# Altium integrated library ON Semi General Purpose Transistors.IntLib: 1679 symbols (part 16 of 36)
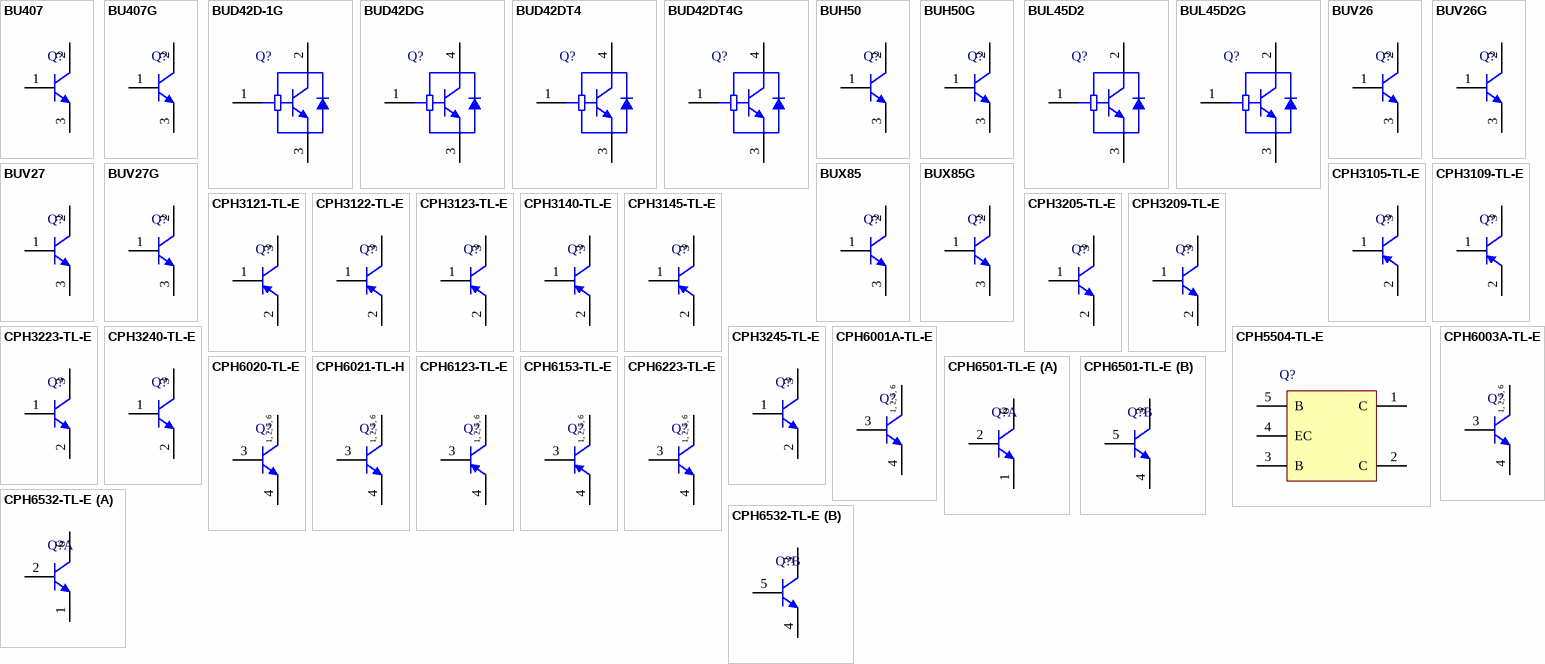
[diagram p60: symbols BU407 to CPH6532-TL-E]

## CPH6532-TL-E
designator Q?
Bipolar Transistor, 50 V, 1 A, Low VCE(sat), NPN Dual, 6-Pin CPH, Pb-Free, Tape and Reel; Manufacturer: On Semiconductor; PartNumber: CPH6532-TL-E; IC Continuous (A): 1; Polarity: Dual NPN; PackageReference: CPH-6; PackageDescription: 6-Pin Small Outline Transistor, Body 2.9 x 1.6 mm, Pitch 0.95 mm; Supplier 1: Digi-Key; Supplier Part Number 1: CPH6532-TL-E-ND; Supplier 2: Mouser; Supplier Part Number 2: 863-CPH6532-TL-E; Packing: Tape and Reel; RoHS: TRUE; Mounting Technology: Surface Mount; ComponentLink1Description: Manufacturer URL; ComponentLink1URL: http://www.onsemi.com/; ComponentLink2Description: Datasheet; ComponentLink2URL: http://www.onsemi.com/pub_link/Collateral/CPH6532-D.PDF; ComponentLink3Description: Package Specification; ComponentLink3URL: http://www.onsemi.com/pub_link/Collateral/CPH6001A-D.PDF
footprint ONSC-CPH-6_V (SOT23, 6-Leads, Body 2.9x1.6mm, Pitch 0.95mm)
part A pins: 1 E, 2 B, 6 C
part B pins: 3 C, 4 E, 5 B

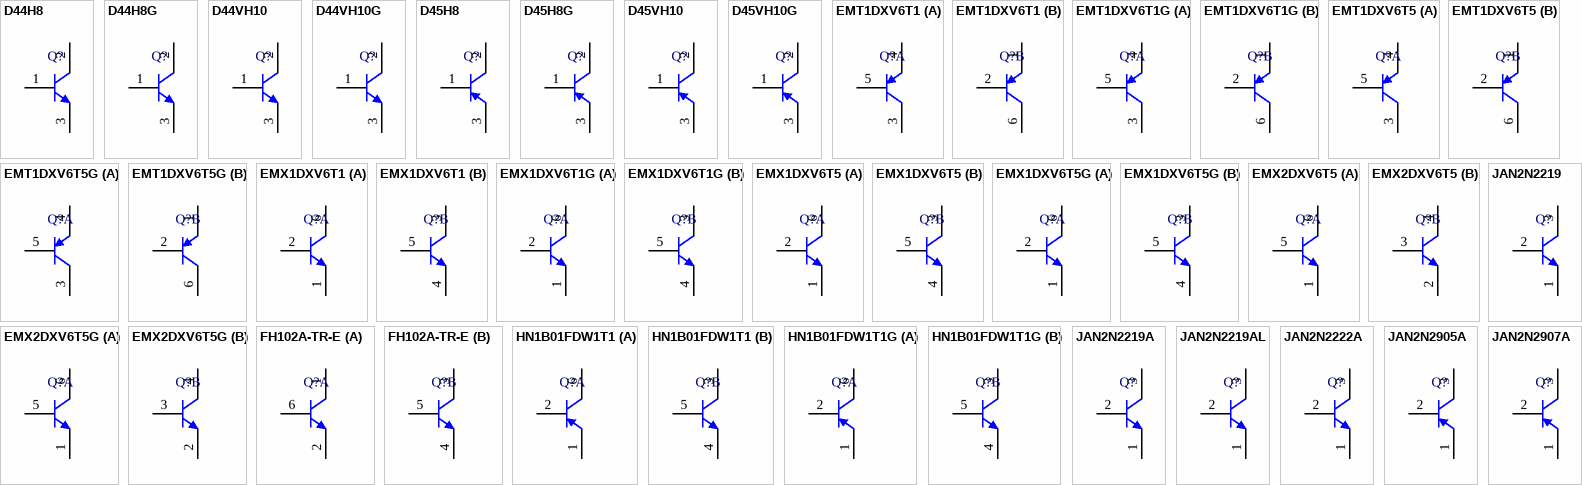
[diagram p19: symbols D44H8 to JAN2N2907A]

## D44H8
designator Q?
Complementary Silicon Power Transistor, 3-Pin TO-220, Tube; Manufacturer: On Semiconductor; PartNumber: D44H8; IC Continuous (A): 10; Polarity: NPN; DatasheetVersion: Rev. 12; PackageVersion: Rev. AG, 09/2011; PackageReference: TO-220-3-221A-09; PackageDescription: 3-Pin Flange Mount, Vertical Straight Lead, Body 9.97 x 4.445 mm, Pitch 2.54 mm; Supplier 1: Digi-Key; Supplier Part Number 1: D44H8OS-ND; Packing: Tube; RoHS: FALSE; Mounting Technology: Through Hole; ComponentLink1Description: Manufacturer URL; ComponentLink1URL: http://www.onsemi.com/; ComponentLink2Description: Datasheet; ComponentLink2URL: http://www.onsemi.com/pub_link/Collateral/D44H-D.PDF; ComponentLink3Description: Package Specification; ComponentLink3URL: http://www.onsemi.com/pub_link/Collateral/221A-09.PDF
footprint ONSC-TO-220-3-221A-09 (FM, 3-Leads, Body 10.3x4.85mm, Pitch 2.54mm)
pins: 1 B, 2 C, 3 E

## D44H8G
designator Q?
Complementary Silicon Power Transistor, 3-Pin TO-220, Pb-Free, Tube; Manufacturer: On Semiconductor; PartNumber: D44H8G; IC Continuous (A): 10; Polarity: NPN; DatasheetVersion: Rev. 12; PackageVersion: Rev. AG, 09/2011; PackageReference: TO-220-3-221A-09; PackageDescription: 3-Pin Flange Mount, Vertical Straight Lead, Body 9.97 x 4.445 mm, Pitch 2.54 mm; Supplier 1: Digi-Key; Supplier Part Number 1: D44H8GOS-ND; Supplier 2: Farnell; Supplier Part Number 2: 9556206; Supplier 3: Newark; Supplier Part Number 3: 38K1067; Supplier 4: Newark; Supplier Part Number 4: 71J3833; Supplier 5: Mouser; Supplier Part Number 5: 863-D44H8G; Packing: Tube; RoHS: TRUE; Mounting Technology: Through Hole; ComponentLink1Description: Manufacturer URL; ComponentLink1URL: http://www.onsemi.com/; ComponentLink2Description: Datasheet; ComponentLink2URL: http://www.onsemi.com/pub_link/Collateral/D44H-D.PDF; ComponentLink3Description: Package Specification; ComponentLink3URL: http://www.onsemi.com/pub_link/Collateral/221A-09.PDF
footprint ONSC-TO-220-3-221A-09 (FM, 3-Leads, Body 10.3x4.85mm, Pitch 2.54mm)
pins: 1 B, 2 C, 3 E

## D44VH10
designator Q?
Complementary Silicon Power Transistor, 3-Pin TO-220, Tube; Manufacturer: On Semiconductor; PartNumber: D44VH10; IC Continuous (A): 15; Polarity: NPN; DatasheetVersion: Rev. 7; PackageVersion: Rev. AG, 09/2011; PackageReference: TO-220-3-221A-09; PackageDescription: 3-Pin Flange Mount, Vertical Straight Lead, Body 9.97 x 4.445 mm, Pitch 2.54 mm; Supplier 1: Digi-Key; Supplier Part Number 1: D44VH10OS-ND; Packing: Tube; RoHS: FALSE; Mounting Technology: Through Hole; ComponentLink1Description: Manufacturer URL; ComponentLink1URL: http://www.onsemi.com/; ComponentLink2Description: Datasheet; ComponentLink2URL: http://www.onsemi.com/pub_link/Collateral/D44VH-D.PDF; ComponentLink3Description: Package Specification; ComponentLink3URL: http://www.onsemi.com/pub_link/Collateral/221A-09.PDF
footprint ONSC-TO-220-3-221A-09 (FM, 3-Leads, Body 10.3x4.85mm, Pitch 2.54mm)
pins: 1 B, 2 C, 3 E

## D44VH10G
designator Q?
Complementary Silicon Power Transistor, 3-Pin TO-220, Pb-Free, Tube; Manufacturer: On Semiconductor; PartNumber: D44VH10G; IC Continuous (A): 15; Polarity: NPN; DatasheetVersion: Rev. 7; PackageVersion: Rev. AG, 09/2011; PackageReference: TO-220-3-221A-09; PackageDescription: 3-Pin Flange Mount, Vertical Straight Lead, Body 9.97 x 4.445 mm, Pitch 2.54 mm; Supplier 1: Digi-Key; Supplier Part Number 1: D44VH10GOS-ND; Supplier 2: Farnell; Supplier Part Number 2: 1459054; Supplier 3: Newark; Supplier Part Number 3: 26K3586; Supplier 4: Mouser; Supplier Part Number 4: 863-D44VH10G; Packing: Tube; RoHS: TRUE; Mounting Technology: Through Hole; ComponentLink1Description: Manufacturer URL; ComponentLink1URL: http://www.onsemi.com/; ComponentLink2Description: Datasheet; ComponentLink2URL: http://www.onsemi.com/pub_link/Collateral/D44VH-D.PDF; ComponentLink3Description: Package Specification; ComponentLink3URL: http://www.onsemi.com/pub_link/Collateral/221A-09.PDF
footprint ONSC-TO-220-3-221A-09 (FM, 3-Leads, Body 10.3x4.85mm, Pitch 2.54mm)
pins: 1 B, 2 C, 3 E

## D45H8
designator Q?
Complementary Silicon Power Transistor, 3-Pin TO-220, Tube; Manufacturer: On Semiconductor; PartNumber: D45H8; IC Continuous (A): 10; Polarity: PNP; DatasheetVersion: Rev. 12; PackageVersion: Rev. AG, 09/2011; PackageReference: TO-220-3-221A-09; PackageDescription: 3-Pin Flange Mount, Vertical Straight Lead, Body 9.97 x 4.445 mm, Pitch 2.54 mm; Supplier 1: Digi-Key; Supplier Part Number 1: D45H8OS-ND; Packing: Tube; RoHS: FALSE; Mounting Technology: Through Hole; ComponentLink1Description: Manufacturer URL; ComponentLink1URL: http://www.onsemi.com/; ComponentLink2Description: Datasheet; ComponentLink2URL: http://www.onsemi.com/pub_link/Collateral/D44H-D.PDF; ComponentLink3Description: Package Specification; ComponentLink3URL: http://www.onsemi.com/pub_link/Collateral/221A-09.PDF
footprint ONSC-TO-220-3-221A-09 (FM, 3-Leads, Body 10.3x4.85mm, Pitch 2.54mm)
pins: 1 B, 2 C, 3 E

## D45H8G
designator Q?
Complementary Silicon Power Transistor, 3-Pin TO-220, Pb-Free, Tube; Manufacturer: On Semiconductor; PartNumber: D45H8G; IC Continuous (A): 10; Polarity: PNP; DatasheetVersion: Rev. 12; PackageVersion: Rev. AG, 09/2011; PackageReference: TO-220-3-221A-09; PackageDescription: 3-Pin Flange Mount, Vertical Straight Lead, Body 9.97 x 4.445 mm, Pitch 2.54 mm; Supplier 1: Digi-Key; Supplier Part Number 1: D45H8GOS-ND; Supplier 2: Farnell; Supplier Part Number 2: 9556214; Supplier 3: Newark; Supplier Part Number 3: 45J0695; Supplier 4: Mouser; Supplier Part Number 4: 863-D45H8G; Packing: Tube; RoHS: TRUE; Mounting Technology: Through Hole; ComponentLink1Description: Manufacturer URL; ComponentLink1URL: http://www.onsemi.com/; ComponentLink2Description: Datasheet; ComponentLink2URL: http://www.onsemi.com/pub_link/Collateral/D44H-D.PDF; ComponentLink3Description: Package Specification; ComponentLink3URL: http://www.onsemi.com/pub_link/Collateral/221A-09.PDF
footprint ONSC-TO-220-3-221A-09 (FM, 3-Leads, Body 10.3x4.85mm, Pitch 2.54mm)
pins: 1 B, 2 C, 3 E

## D45VH10
designator Q?
Complementary Silicon Power Transistor, 3-Pin TO-220, Tube; Manufacturer: On Semiconductor; PartNumber: D45VH10; IC Continuous (A): 15; Polarity: PNP; DatasheetVersion: Rev. 7; PackageVersion: Rev. AG, 09/2011; PackageReference: TO-220-3-221A-09; PackageDescription: 3-Pin Flange Mount, Vertical Straight Lead, Body 9.97 x 4.445 mm, Pitch 2.54 mm; Supplier 1: Digi-Key; Supplier Part Number 1: D45VH10OS-ND; Packing: Tube; RoHS: FALSE; Mounting Technology: Through Hole; ComponentLink1Description: Manufacturer URL; ComponentLink1URL: http://www.onsemi.com/; ComponentLink2Description: Datasheet; ComponentLink2URL: http://www.onsemi.com/pub_link/Collateral/D44VH-D.PDF; ComponentLink3Description: Package Specification; ComponentLink3URL: http://www.onsemi.com/pub_link/Collateral/221A-09.PDF
footprint ONSC-TO-220-3-221A-09 (FM, 3-Leads, Body 10.3x4.85mm, Pitch 2.54mm)
pins: 1 B, 2 C, 3 E

## D45VH10G
designator Q?
Complementary Silicon Power Transistor, 3-Pin TO-220, Pb-Free, Tube; Manufacturer: On Semiconductor; PartNumber: D45VH10G; IC Continuous (A): 15; Polarity: PNP; DatasheetVersion: Rev. 7; PackageVersion: Rev. AG, 09/2011; PackageReference: TO-220-3-221A-09; PackageDescription: 3-Pin Flange Mount, Vertical Straight Lead, Body 9.97 x 4.445 mm, Pitch 2.54 mm; Supplier 1: Digi-Key; Supplier Part Number 1: D45VH10GOS-ND; Supplier 2: Farnell; Supplier Part Number 2: 1459055; Supplier 3: Newark; Supplier Part Number 3: 26K3588; Supplier 4: Mouser; Supplier Part Number 4: 863-D45VH10G; Packing: Tube; RoHS: TRUE; Mounting Technology: Through Hole; ComponentLink1Description: Manufacturer URL; ComponentLink1URL: http://www.onsemi.com/; ComponentLink2Description: Datasheet; ComponentLink2URL: http://www.onsemi.com/pub_link/Collateral/D44VH-D.PDF; ComponentLink3Description: Package Specification; ComponentLink3URL: http://www.onsemi.com/pub_link/Collateral/221A-09.PDF
footprint ONSC-TO-220-3-221A-09 (FM, 3-Leads, Body 10.3x4.85mm, Pitch 2.54mm)
pins: 1 B, 2 C, 3 E

## EMT1DXV6T1
designator Q?
Dual General Purpose Transistors, PNP, 6-Pin SOT-563, Pb-Free, Tape and Reel; Manufacturer: On Semiconductor; PartNumber: EMT1DXV6T1; IC Continuous (A): -0.1; Polarity: Dual PNP; DatasheetVersion: Rev. 1; PackageVersion: Rev. F, 04/2005; PackageReference: SOT-563-6-463A-01; PackageDescription: 6-Pin Small Outline Transistor, Body 1.6 x 1.2 mm, Pitch 0.5 mm; Supplier 1: Digi-Key; Supplier Part Number 1: EMT1DXV6T1-ND; Supplier 2: Mouser; Supplier Part Number 2: 863-EMT1DXV6T1; Packing: Tape and Reel; RoHS: TRUE; Mounting Technology: Surface Mount; ComponentLink1Description: Manufacturer URL; ComponentLink1URL: http://www.onsemi.com/; ComponentLink2Description: Datasheet; ComponentLink2URL: http://www.onsemi.com/pub_link/Collateral/EMT1DXV6T1-D.PDF; ComponentLink3Description: Package Specification; ComponentLink3URL: http://www.onsemi.cn/pub_link/Collateral/463A-01.PDF
footprint ONSC-SOT-563-6-463A-01_V (SOT23, 6-Leads, Body 1.6x1.2mm, Pitch 0.5mm)
part A pins: 3 C, 4 E, 5 B
part B pins: 1 E, 2 B, 6 C

## EMT1DXV6T1G
designator Q?
Dual General Purpose Transistors, PNP, 6-Pin SOT-563, Pb-Free, Tape and Reel; Manufacturer: On Semiconductor; PartNumber: EMT1DXV6T1G; IC Continuous (A): -0.1; Polarity: Dual PNP; DatasheetVersion: Rev. 1; PackageVersion: Rev. F, 04/2005; PackageReference: SOT-563-6-463A-01; PackageDescription: 6-Pin Small Outline Transistor, Body 1.6 x 1.2 mm, Pitch 0.5 mm; Supplier 1: Digi-Key; Supplier Part Number 1: EMT1DXV6T1G-ND; Supplier 2: Newark; Supplier Part Number 2: 41K9774; Supplier 3: Mouser; Supplier Part Number 3: 863-EMT1DXV6T1G; Packing: Tape and Reel; RoHS: TRUE; Mounting Technology: Surface Mount; ComponentLink1Description: Manufacturer URL; ComponentLink1URL: http://www.onsemi.com/; ComponentLink2Description: Datasheet; ComponentLink2URL: http://www.onsemi.com/pub_link/Collateral/EMT1DXV6T1-D.PDF; ComponentLink3Description: Package Specification; ComponentLink3URL: http://www.onsemi.cn/pub_link/Collateral/463A-01.PDF
footprint ONSC-SOT-563-6-463A-01_V (SOT23, 6-Leads, Body 1.6x1.2mm, Pitch 0.5mm)
part A pins: 3 C, 4 E, 5 B
part B pins: 1 E, 2 B, 6 C

## EMT1DXV6T5
designator Q?
Dual General Purpose Transistors, PNP, 6-Pin SOT-563, Pb-Free, Tape and Reel; Manufacturer: On Semiconductor; PartNumber: EMT1DXV6T5; IC Continuous (A): -0.1; Polarity: Dual PNP; DatasheetVersion: Rev. 1; PackageVersion: Rev. F, 04/2005; PackageReference: SOT-563-6-463A-01; PackageDescription: 6-Pin Small Outline Transistor, Body 1.6 x 1.2 mm, Pitch 0.5 mm; Supplier 1: Digi-Key; Supplier Part Number 1: EMT1DXV6T5-ND; Supplier 2: Mouser; Supplier Part Number 2: 863-EMT1DXV6T5; Packing: Tape and Reel; RoHS: TRUE; Mounting Technology: Surface Mount; ComponentLink1Description: Manufacturer URL; ComponentLink1URL: http://www.onsemi.com/; ComponentLink2Description: Datasheet; ComponentLink2URL: http://www.onsemi.com/pub_link/Collateral/EMT1DXV6T1-D.PDF; ComponentLink3Description: Package Specification; ComponentLink3URL: http://www.onsemi.cn/pub_link/Collateral/463A-01.PDF
footprint ONSC-SOT-563-6-463A-01_V (SOT23, 6-Leads, Body 1.6x1.2mm, Pitch 0.5mm)
part A pins: 3 C, 4 E, 5 B
part B pins: 1 E, 2 B, 6 C

## EMT1DXV6T5G
designator Q?
Dual General Purpose Transistors, PNP, 6-Pin SOT-563, Pb-Free, Tape and Reel; Manufacturer: On Semiconductor; PartNumber: EMT1DXV6T5G; IC Continuous (A): -0.1; Polarity: Dual PNP; DatasheetVersion: Rev. 1; PackageVersion: Rev. F, 04/2005; PackageReference: SOT-563-6-463A-01; PackageDescription: 6-Pin Small Outline Transistor, Body 1.6 x 1.2 mm, Pitch 0.5 mm; Supplier 1: Digi-Key; Supplier Part Number 1: EMT1DXV6T5G-ND; Supplier 2: Mouser; Supplier Part Number 2: 863-EMT1DXV6T5G; Packing: Tape and Reel; RoHS: TRUE; Mounting Technology: Surface Mount; ComponentLink1Description: Manufacturer URL; ComponentLink1URL: http://www.onsemi.com/; ComponentLink2Description: Datasheet; ComponentLink2URL: http://www.onsemi.com/pub_link/Collateral/EMT1DXV6T1-D.PDF; ComponentLink3Description: Package Specification; ComponentLink3URL: http://www.onsemi.cn/pub_link/Collateral/463A-01.PDF
footprint ONSC-SOT-563-6-463A-01_V (SOT23, 6-Leads, Body 1.6x1.2mm, Pitch 0.5mm)
part A pins: 3 C, 4 E, 5 B
part B pins: 1 E, 2 B, 6 C

## EMX1DXV6T1
designator Q?
Dual NPN General Purpose Amplifier Transistors, 6-Pin SOT-563, Pb-Free, Tape and Reel; Manufacturer: On Semiconductor; PartNumber: EMX1DXV6T1; IC Continuous (A): 0.1; DatasheetVersion: Rev. 1; PackageVersion: Rev. F, 04/2005; PackageReference: SOT-563-6-463A-01; PackageDescription: 6-Pin Small Outline Transistor, Body 1.6 x 1.2 mm, Pitch 0.5 mm; Supplier 1: Digi-Key; Supplier Part Number 1: EMX1DXV6T1-ND; Supplier 2: Mouser; Supplier Part Number 2: 863-EMX1DXV6T1; Packing: Tape and Reel; Polarity: Dual NPN; RoHS: TRUE; Mounting Technology: Surface Mount; ComponentLink1Description: Manufacturer URL; ComponentLink1URL: http://www.onsemi.com/; ComponentLink2Description: Datasheet; ComponentLink2URL: http://www.onsemi.com/pub_link/Collateral/EMX1DXV6T1-D.PDF; ComponentLink3Description: Package Specification; ComponentLink3URL: http://www.onsemi.cn/pub_link/Collateral/463A-01.PDF
footprint ONSC-SOT-563-6-463A-01_V (SOT23, 6-Leads, Body 1.6x1.2mm, Pitch 0.5mm)
part A pins: 1 E, 2 B, 6 C
part B pins: 3 C, 4 E, 5 B

## EMX1DXV6T1G
designator Q?
Dual NPN General Purpose Amplifier Transistors, 6-Pin SOT-563, Pb-Free, Tape and Reel; Manufacturer: On Semiconductor; PartNumber: EMX1DXV6T1G; IC Continuous (A): 0.1; DatasheetVersion: Rev. 1; PackageVersion: Rev. F, 04/2005; PackageReference: SOT-563-6-463A-01; PackageDescription: 6-Pin Small Outline Transistor, Body 1.6 x 1.2 mm, Pitch 0.5 mm; Supplier 1: Digi-Key; Supplier Part Number 1: EMX1DXV6T1G-ND; Supplier 2: Mouser; Supplier Part Number 2: 863-EMX1DXV6T1G; Packing: Tape and Reel; Polarity: Dual NPN; RoHS: TRUE; Mounting Technology: Surface Mount; ComponentLink1Description: Manufacturer URL; ComponentLink1URL: http://www.onsemi.com/; ComponentLink2Description: Datasheet; ComponentLink2URL: http://www.onsemi.com/pub_link/Collateral/EMX1DXV6T1-D.PDF; ComponentLink3Description: Package Specification; ComponentLink3URL: http://www.onsemi.cn/pub_link/Collateral/463A-01.PDF
footprint ONSC-SOT-563-6-463A-01_V (SOT23, 6-Leads, Body 1.6x1.2mm, Pitch 0.5mm)
part A pins: 1 E, 2 B, 6 C
part B pins: 3 C, 4 E, 5 B

## EMX1DXV6T5
designator Q?
Dual NPN General Purpose Amplifier Transistors, 6-Pin SOT-563, Pb-Free, Tape and Reel; Manufacturer: On Semiconductor; PartNumber: EMX1DXV6T5; IC Continuous (A): 0.1; DatasheetVersion: Rev. 1; PackageVersion: Rev. F, 04/2005; PackageReference: SOT-563-6-463A-01; PackageDescription: 6-Pin Small Outline Transistor, Body 1.6 x 1.2 mm, Pitch 0.5 mm; Supplier 1: Mouser; Supplier Part Number 1: 863-EMX1DXV6T5; Packing: Tape and Reel; Polarity: Dual NPN; RoHS: TRUE; Mounting Technology: Surface Mount; ComponentLink1Description: Manufacturer URL; ComponentLink1URL: http://www.onsemi.com/; ComponentLink2Description: Datasheet; ComponentLink2URL: http://www.onsemi.com/pub_link/Collateral/EMX1DXV6T1-D.PDF; ComponentLink3Description: Package Specification; ComponentLink3URL: http://www.onsemi.cn/pub_link/Collateral/463A-01.PDF
footprint ONSC-SOT-563-6-463A-01_V (SOT23, 6-Leads, Body 1.6x1.2mm, Pitch 0.5mm)
part A pins: 1 E, 2 B, 6 C
part B pins: 3 C, 4 E, 5 B

## EMX1DXV6T5G
designator Q?
Dual NPN General Purpose Amplifier Transistors, 6-Pin SOT-563, Pb-Free, Tape and Reel; Manufacturer: On Semiconductor; PartNumber: EMX1DXV6T5G; IC Continuous (A): 0.1; DatasheetVersion: Rev. 1; PackageVersion: Rev. F, 04/2005; PackageReference: SOT-563-6-463A-01; PackageDescription: 6-Pin Small Outline Transistor, Body 1.6 x 1.2 mm, Pitch 0.5 mm; Supplier 1: Digi-Key; Supplier Part Number 1: EMX1DXV6T5G-ND; Supplier 2: Mouser; Supplier Part Number 2: 863-EMX1DXV6T5G; Packing: Tape and Reel; Polarity: Dual NPN; RoHS: TRUE; Mounting Technology: Surface Mount; ComponentLink1Description: Manufacturer URL; ComponentLink1URL: http://www.onsemi.com/; ComponentLink2Description: Datasheet; ComponentLink2URL: http://www.onsemi.com/pub_link/Collateral/EMX1DXV6T1-D.PDF; ComponentLink3Description: Package Specification; ComponentLink3URL: http://www.onsemi.cn/pub_link/Collateral/463A-01.PDF
footprint ONSC-SOT-563-6-463A-01_V (SOT23, 6-Leads, Body 1.6x1.2mm, Pitch 0.5mm)
part A pins: 1 E, 2 B, 6 C
part B pins: 3 C, 4 E, 5 B

## EMX2DXV6T5
designator Q?
Dual NPN General Purpose Amplifier Transistors, 6-Pin SOT-563, Pb-Free, Tape and Reel; Manufacturer: On Semiconductor; PartNumber: EMX2DXV6T5; IC Continuous (A): 0.1; DatasheetVersion: Rev. 2; PackageVersion: Rev. F, 04/2005; PackageReference: SOT-563-6-463A-01; PackageDescription: 6-Pin Small Outline Transistor, Body 1.6 x 1.2 mm, Pitch 0.5 mm; Supplier 1: Digi-Key; Supplier Part Number 1: EMX2DXV6T5-ND; Supplier 2: Mouser; Supplier Part Number 2: 863-EMX2DXV6T5; Packing: Tape and Reel; Polarity: Dual NPN; RoHS: TRUE; Mounting Technology: Surface Mount; ComponentLink1Description: Manufacturer URL; ComponentLink1URL: http://www.onsemi.com/; ComponentLink2Description: Datasheet; ComponentLink2URL: http://www.onsemi.com/pub_link/Collateral/EMX2DXV6T5-D.PDF; ComponentLink3Description: Package Specification; ComponentLink3URL: http://www.onsemi.cn/pub_link/Collateral/463A-01.PDF
footprint ONSC-SOT-563-6-463A-01_V (SOT23, 6-Leads, Body 1.6x1.2mm, Pitch 0.5mm)
part A pins: 1 E, 5 B, 6 C
part B pins: 2 E, 3 B, 4 C

## EMX2DXV6T5G
designator Q?
Dual NPN General Purpose Amplifier Transistors, 6-Pin SOT-563, Pb-Free, Tape and Reel; Manufacturer: On Semiconductor; PartNumber: EMX2DXV6T5G; IC Continuous (A): 0.1; DatasheetVersion: Rev. 2; PackageVersion: Rev. F, 04/2005; PackageReference: SOT-563-6-463A-01; PackageDescription: 6-Pin Small Outline Transistor, Body 1.6 x 1.2 mm, Pitch 0.5 mm; Supplier 1: Digi-Key; Supplier Part Number 1: EMX2DXV6T5G-ND; Supplier 2: Mouser; Supplier Part Number 2: 863-EMX2DXV6T5G; Packing: Tape and Reel; Polarity: Dual NPN; RoHS: TRUE; Mounting Technology: Surface Mount; ComponentLink1Description: Manufacturer URL; ComponentLink1URL: http://www.onsemi.com/; ComponentLink2Description: Datasheet; ComponentLink2URL: http://www.onsemi.com/pub_link/Collateral/EMX2DXV6T5-D.PDF; ComponentLink3Description: Package Specification; ComponentLink3URL: http://www.onsemi.cn/pub_link/Collateral/463A-01.PDF
footprint ONSC-SOT-563-6-463A-01_V (SOT23, 6-Leads, Body 1.6x1.2mm, Pitch 0.5mm)
part A pins: 1 E, 5 B, 6 C
part B pins: 2 E, 3 B, 4 C

## FH102A-TR-E
designator Q?
RF Transistors, 10 V, 70 mA, fT=7 GHz, NPN Dual, 6-Pin MCP, Pb-Free, Tape and Reel; Manufacturer: On Semiconductor; PartNumber: FH102A-TR-E; fT Min (MHz): 5000; IC Continuous (A): 0.07; Polarity: Dual NPN; PackageReference: MCP-6; PackageDescription: 6-Pin Small Outline Transistor, Body 2 x 1.25 mm, Pitch 0.65 mm; Supplier 1: Digi-Key; Supplier Part Number 1: FH102A-TR-E-ND; Supplier 2: Mouser; Supplier Part Number 2: 863-FH102A-TR-E; Packing: Tape and Reel; RoHS: TRUE; Mounting Technology: Surface Mount; ComponentLink1Description: Manufacturer URL; ComponentLink1URL: http://www.onsemi.com/; ComponentLink2Description: Datasheet; ComponentLink2URL: http://www.onsemi.com/pub_link/Collateral/FH102A-D.PDF; ComponentLink3Description: Package Specification; ComponentLink3URL: http://www.onsemi.com/pub_link/Collateral/ENA1126-D.PDF
footprint ONSC-MCP-6_V (SOT23, 6-Leads, Body 2x1.25mm, Pitch 0.65mm)
part A pins: 1 C, 2 E, 6 B
part B pins: 3 C, 4 E, 5 B

## HN1B01FDW1T1
designator Q?
Complementary Dual General Purpose Amplifier Transistors, PNP and NPN Surface Mount, 6-Pin SC-74, Tape and Reel; Manufacturer: On Semiconductor; PartNumber: HN1B01FDW1T1; IC Continuous (A): 0.2; DatasheetVersion: Rev. 3; PackageVersion: Rev. N, 06/2012; PackageReference: SC-74-6-318F-05; PackageDescription: 6-Pin Small Outline Transistor, Body 3 x 1.5 mm, Pitch 0.95 mm; Supplier 1: Digi-Key; Supplier Part Number 1: HN1B01FDW1T1OS-ND; Packing: Tape and Reel; Polarity: Complementary; RoHS: FALSE; Mounting Technology: Surface Mount; ComponentLink1Description: Manufacturer URL; ComponentLink1URL: http://www.onsemi.com/; ComponentLink2Description: Datasheet; ComponentLink2URL: http://www.onsemi.com/pub_link/Collateral/HN1B01FDW1T1-D.PDF; ComponentLink3Description: Package Specification; ComponentLink3URL: http://www.onsemi.com/pub_link/Collateral/318F-05.PDF
footprint ONSC-SC-74-6-318F-05_V (SOT23, 6-Leads, Body 3x1.5mm, Pitch 0.95mm)
part A pins: 1 E, 2 B, 6 C
part B pins: 3 C, 4 E, 5 B

## HN1B01FDW1T1G
designator Q?
Complementary Dual General Purpose Amplifier Transistors, PNP and NPN Surface Mount, 6-Pin SC-74, Pb-Free, Tape and Reel; Manufacturer: On Semiconductor; PartNumber: HN1B01FDW1T1G; IC Continuous (A): 0.2; DatasheetVersion: Rev. 3; PackageVersion: Rev. N, 06/2012; PackageReference: SC-74-6-318F-05; PackageDescription: 6-Pin Small Outline Transistor, Body 3 x 1.5 mm, Pitch 0.95 mm; Supplier 1: Digi-Key; Supplier Part Number 1: HN1B01FDW1T1GOS-ND; Supplier 2: Newark; Supplier Part Number 2: 85W2283; Supplier 3: Mouser; Supplier Part Number 3: 863-HN1B01FDW1T1G; Packing: Tape and Reel; Polarity: Complementary; RoHS: TRUE; Mounting Technology: Surface Mount; ComponentLink1Description: Manufacturer URL; ComponentLink1URL: http://www.onsemi.com/; ComponentLink2Description: Datasheet; ComponentLink2URL: http://www.onsemi.com/pub_link/Collateral/HN1B01FDW1T1-D.PDF; ComponentLink3Description: Package Specification; ComponentLink3URL: http://www.onsemi.com/pub_link/Collateral/318F-05.PDF
footprint ONSC-SC-74-6-318F-05_V (SOT23, 6-Leads, Body 3x1.5mm, Pitch 0.95mm)
part A pins: 1 E, 2 B, 6 C
part B pins: 3 C, 4 E, 5 B

## JAN2N2219
designator Q?
Small Signal Switching Transistor, NPN Silicon, 3-Pin TO-39, Bulk Box; Manufacturer: On Semiconductor; PartNumber: JAN2N2219; IC Continuous (A): 0.8; DatasheetVersion: Rev. 1; PackageVersion: Rev. A, 06/2012; PackageReference: TO-39-3-205AB; PackageDescription: 3-Pin Transistor Outline, Diameter 9.145 mm; Supplier 1: Newark; Supplier Part Number 1: 45W8316; Supplier 2: Mouser; Supplier Part Number 2: 863-JAN2N2219; Packing: Bulk Box; Polarity: NPN; RoHS: FALSE; Mounting Technology: Through Hole; ComponentLink1Description: Manufacturer URL; ComponentLink1URL: http://www.onsemi.com/; ComponentLink2Description: Datasheet; ComponentLink2URL: http://www.onsemi.com/pub_link/Collateral/2N2219-D.PDF; ComponentLink3Description: Package Specification; ComponentLink3URL: http://www.onsemi.com/pub_link/Collateral/205AB.PDF
footprint ONSC-TO-39-3-205AB (TO, 3-Leads, Diameter 9.145 mm)
pins: 1 E, 2 B, 3 C

## JAN2N2219A
designator Q?
Small Signal Switching Transistor, NPN Silicon, 3-Pin TO-39, Bulk Box; Manufacturer: On Semiconductor; PartNumber: JAN2N2219A; IC Continuous (A): 0.8; DatasheetVersion: Rev. 1; PackageVersion: Rev. A, 06/2012; PackageReference: TO-39-3-205AB; PackageDescription: 3-Pin Transistor Outline, Diameter 9.145 mm; Supplier 1: Newark; Supplier Part Number 1: 45W8317; Supplier 2: Mouser; Supplier Part Number 2: 863-JAN2N2219A; Packing: Bulk Box; Polarity: NPN; RoHS: FALSE; Mounting Technology: Through Hole; ComponentLink1Description: Manufacturer URL; ComponentLink1URL: http://www.onsemi.com/; ComponentLink2Description: Datasheet; ComponentLink2URL: http://www.onsemi.com/pub_link/Collateral/2N2219-D.PDF; ComponentLink3Description: Package Specification; ComponentLink3URL: http://www.onsemi.com/pub_link/Collateral/205AB.PDF
footprint ONSC-TO-39-3-205AB (TO, 3-Leads, Diameter 9.145 mm)
pins: 1 E, 2 B, 3 C

## JAN2N2219AL
designator Q?
Small Signal Switching Transistor, NPN Silicon, 3-Pin TO-5, Bulk Box; Manufacturer: On Semiconductor; PartNumber: JAN2N2219AL; IC Continuous (A): 0.8; DatasheetVersion: Rev. 1; PackageVersion: Rev. B, 07/2012; PackageReference: TO-5-3-205AA; PackageDescription: 3-Pin Transistor Outline, Diameter 9.145 mm; Supplier 1: Mouser; Supplier Part Number 1: 863-JAN2N2219AL; Packing: Bulk Box; Polarity: NPN; RoHS: FALSE; Mounting Technology: Through Hole; ComponentLink1Description: Manufacturer URL; ComponentLink1URL: http://www.onsemi.com/; ComponentLink2Description: Datasheet; ComponentLink2URL: http://www.onsemi.com/pub_link/Collateral/2N2219-D.PDF; ComponentLink3Description: Package Specification; ComponentLink3URL: http://www.onsemi.com/pub_link/Collateral/205AA.PDF
footprint ONSC-TO-5-3-205AA (TO, 3-Leads, Diameter 9.145 mm)
pins: 1 E, 2 B, 3 C

## JAN2N2222A
designator Q?
Small Signal Switching Transistor, NPN Silicon, 3-Pin TO-18, Bulk Box; Manufacturer: On Semiconductor; PartNumber: JAN2N2222A; IC Continuous (A): 0.8; DatasheetVersion: Rev. 2; PackageVersion: Rev. A, 08/2012; PackageReference: TO-18-3-206AA; PackageDescription: 3-Pin Transistor Outline, Diameter 5.575 mm; Supplier 1: Newark; Supplier Part Number 1: 45W8319; Supplier 2: Mouser; Supplier Part Number 2: 863-JAN2N2222A; Packing: Bulk Box; Polarity: NPN; RoHS: FALSE; Mounting Technology: Through Hole; ComponentLink1Description: Manufacturer URL; ComponentLink1URL: http://www.onsemi.com/; ComponentLink2Description: Datasheet; ComponentLink2URL: http://www.onsemi.com/pub_link/Collateral/2N2222A-D.PDF; ComponentLink3Description: Package Specification; ComponentLink3URL: http://www.onsemi.com/pub_link/Collateral/206AA.PDF
footprint ONSC-TO-18-3-206AA (TO, 3-Leads, Diameter 5.575 mm)
pins: 1 E, 2 B, 3 C

## JAN2N2905A
designator Q?
Small Signal Switching Transistor, PNP Silicon, 3-Pin TO-39, Bulk Box; Manufacturer: On Semiconductor; PartNumber: JAN2N2905A; IC Continuous (A): -0.6; DatasheetVersion: Rev. 2; PackageVersion: Rev. A, 06/2012; PackageReference: TO-39-3-205AB; PackageDescription: 3-Pin Transistor Outline, Diameter 9.145 mm; Supplier 1: Newark; Supplier Part Number 1: 76T6066; Supplier 2: Mouser; Supplier Part Number 2: 863-JAN2N2905A; Packing: Bulk Box; Polarity: PNP; RoHS: FALSE; Mounting Technology: Through Hole; ComponentLink1Description: Manufacturer URL; ComponentLink1URL: http://www.onsemi.com/; ComponentLink2Description: Datasheet; ComponentLink2URL: http://www.onsemi.com/pub_link/Collateral/2N2905A-D.PDF; ComponentLink3Description: Package Specification; ComponentLink3URL: http://www.onsemi.com/pub_link/Collateral/205AB.PDF
footprint ONSC-TO-39-3-205AB (TO, 3-Leads, Diameter 9.145 mm)
pins: 1 E, 2 B, 3 C

## JAN2N2907A
designator Q?
Small Signal Switching Transistor, PNP Silicon, 3-Pin TO-18, Bulk Box; Manufacturer: On Semiconductor; PartNumber: JAN2N2907A; IC Continuous (A): -0.6; DatasheetVersion: Rev. 3; PackageVersion: Rev. A, 08/2012; PackageReference: TO-18-3-206AA; PackageDescription: 3-Pin Transistor Outline, Diameter 5.575 mm; Supplier 1: Newark; Supplier Part Number 1: 76T6067; Supplier 2: Mouser; Supplier Part Number 2: 863-JAN2N2907A; Packing: Bulk Box; Polarity: PNP; RoHS: FALSE; Mounting Technology: Through Hole; ComponentLink1Description: Manufacturer URL; ComponentLink1URL: http://www.onsemi.com/; ComponentLink2Description: Datasheet; ComponentLink2URL: http://www.onsemi.com/pub_link/Collateral/2N2907A-D.PDF; ComponentLink3Description: Package Specification; ComponentLink3URL: http://www.onsemi.com/pub_link/Collateral/206AA.PDF
footprint ONSC-TO-18-3-206AA (TO, 3-Leads, Diameter 5.575 mm)
pins: 1 E, 2 B, 3 C

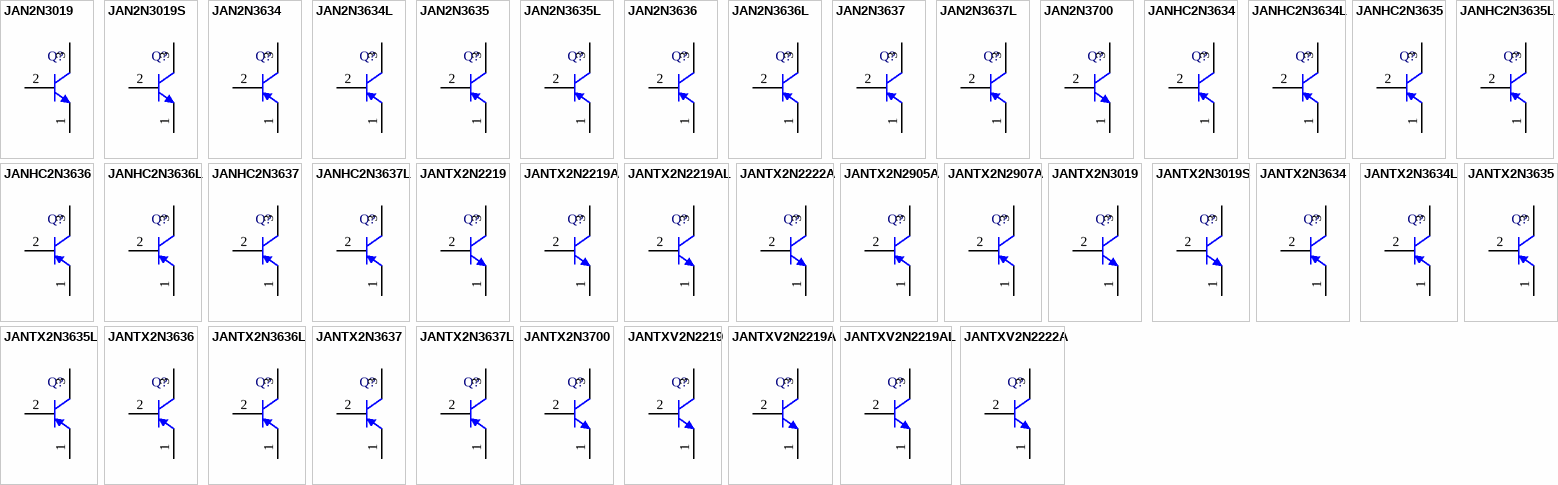
[diagram p20: symbols JAN2N3019 to JANTXV2N2222A]

## JAN2N3019
designator Q?
Low Power Transistor, NPN Silicon, 3-Pin TO-5, Bulk Box; Manufacturer: On Semiconductor; PartNumber: JAN2N3019; IC Continuous (A): 1; DatasheetVersion: Rev. 2; PackageVersion: Rev. B, 07/2012; PackageReference: TO-5-3-205AA; PackageDescription: 3-Pin Transistor Outline, Diameter 9.145 mm; Supplier 1: Newark; Supplier Part Number 1: 76T6068; Supplier 2: Mouser; Supplier Part Number 2: 863-JAN2N3019; Packing: Bulk Box; Polarity: NPN; RoHS: FALSE; Mounting Technology: Through Hole; ComponentLink1Description: Manufacturer URL; ComponentLink1URL: http://www.onsemi.com/; ComponentLink2Description: Datasheet; ComponentLink2URL: http://www.onsemi.com/pub_link/Collateral/2N3019-D.PDF; ComponentLink3Description: Package Specification; ComponentLink3URL: http://www.onsemi.com/pub_link/Collateral/205AA.PDF
footprint ONSC-TO-5-3-205AA (TO, 3-Leads, Diameter 9.145 mm)
pins: 1 E, 2 B, 3 C

## JAN2N3019S
designator Q?
Low Power Transistor, NPN Silicon, 3-Pin TO-39, Bulk Box; Manufacturer: On Semiconductor; PartNumber: JAN2N3019S; IC Continuous (A): 1; DatasheetVersion: Rev. 2; PackageVersion: Rev. A, 06/2012; PackageReference: TO-39-3-205AB; PackageDescription: 3-Pin Transistor Outline, Diameter 9.145 mm; Supplier 1: Newark; Supplier Part Number 1: 76T6069; Packing: Bulk Box; Polarity: NPN; RoHS: FALSE; Mounting Technology: Through Hole; ComponentLink1Description: Manufacturer URL; ComponentLink1URL: http://www.onsemi.com/; ComponentLink2Description: Datasheet; ComponentLink2URL: http://www.onsemi.com/pub_link/Collateral/2N3019-D.PDF; ComponentLink3Description: Package Specification; ComponentLink3URL: http://www.onsemi.com/pub_link/Collateral/205AB.PDF
footprint ONSC-TO-39-3-205AB (TO, 3-Leads, Diameter 9.145 mm)
pins: 1 E, 2 B, 3 C

## JAN2N3634
designator Q?
Low Power Transistor, PNP Silicon, 3-Pin TO-39, Bulk Box; Manufacturer: On Semiconductor; PartNumber: JAN2N3634; IC Continuous (A): 1; DatasheetVersion: Rev. 1; PackageVersion: Rev. A, 06/2012; PackageReference: TO-39-3-205AB; PackageDescription: 3-Pin Transistor Outline, Diameter 9.145 mm; Supplier 1: Newark; Supplier Part Number 1: 72W1886; Packing: Bulk Box; Polarity: PNP; RoHS: FALSE; Mounting Technology: Through Hole; ComponentLink1Description: Manufacturer URL; ComponentLink1URL: http://www.onsemi.com/; ComponentLink2Description: Datasheet; ComponentLink2URL: http://www.onsemi.com/pub_link/Collateral/2N3637-D.PDF; ComponentLink3Description: Package Specification; ComponentLink3URL: http://www.onsemi.com/pub_link/Collateral/205AB.PDF
footprint ONSC-TO-39-3-205AB (TO, 3-Leads, Diameter 9.145 mm)
pins: 1 E, 2 B, 3 C

## JAN2N3634L
designator Q?
Low Power Transistor, PNP Silicon, 3-Pin TO-5, Bulk Box; Manufacturer: On Semiconductor; PartNumber: JAN2N3634L; IC Continuous (A): 1; DatasheetVersion: Rev. 1; PackageVersion: Rev. B, 07/2012; PackageReference: TO-5-3-205AA; PackageDescription: 3-Pin Transistor Outline, Diameter 9.145 mm; Supplier 1: Newark; Supplier Part Number 1: 72W1887; Packing: Bulk Box; Polarity: PNP; RoHS: FALSE; Mounting Technology: Through Hole; ComponentLink1Description: Manufacturer URL; ComponentLink1URL: http://www.onsemi.com/; ComponentLink2Description: Datasheet; ComponentLink2URL: http://www.onsemi.com/pub_link/Collateral/2N3637-D.PDF; ComponentLink3Description: Package Specification; ComponentLink3URL: http://www.onsemi.com/pub_link/Collateral/205AA.PDF
footprint ONSC-TO-5-3-205AA (TO, 3-Leads, Diameter 9.145 mm)
pins: 1 E, 2 B, 3 C

## JAN2N3635
designator Q?
Low Power Transistor, PNP Silicon, 3-Pin TO-39, Bulk Box; Manufacturer: On Semiconductor; PartNumber: JAN2N3635; IC Continuous (A): 1; DatasheetVersion: Rev. 1; PackageVersion: Rev. A, 06/2012; PackageReference: TO-39-3-205AB; PackageDescription: 3-Pin Transistor Outline, Diameter 9.145 mm; Supplier 1: Newark; Supplier Part Number 1: 72W1888; Packing: Bulk Box; Polarity: PNP; RoHS: FALSE; Mounting Technology: Through Hole; ComponentLink1Description: Manufacturer URL; ComponentLink1URL: http://www.onsemi.com/; ComponentLink2Description: Datasheet; ComponentLink2URL: http://www.onsemi.com/pub_link/Collateral/2N3637-D.PDF; ComponentLink3Description: Package Specification; ComponentLink3URL: http://www.onsemi.com/pub_link/Collateral/205AB.PDF
footprint ONSC-TO-39-3-205AB (TO, 3-Leads, Diameter 9.145 mm)
pins: 1 E, 2 B, 3 C

## JAN2N3635L
designator Q?
Low Power Transistor, PNP Silicon, 3-Pin TO-5, Bulk Box; Manufacturer: On Semiconductor; PartNumber: JAN2N3635L; IC Continuous (A): 1; DatasheetVersion: Rev. 1; PackageVersion: Rev. B, 07/2012; PackageReference: TO-5-3-205AA; PackageDescription: 3-Pin Transistor Outline, Diameter 9.145 mm; Supplier 1: Newark; Supplier Part Number 1: 72W1889; Packing: Bulk Box; Polarity: PNP; RoHS: FALSE; Mounting Technology: Through Hole; ComponentLink1Description: Manufacturer URL; ComponentLink1URL: http://www.onsemi.com/; ComponentLink2Description: Datasheet; ComponentLink2URL: http://www.onsemi.com/pub_link/Collateral/2N3637-D.PDF; ComponentLink3Description: Package Specification; ComponentLink3URL: http://www.onsemi.com/pub_link/Collateral/205AA.PDF
footprint ONSC-TO-5-3-205AA (TO, 3-Leads, Diameter 9.145 mm)
pins: 1 E, 2 B, 3 C

## JAN2N3636
designator Q?
Low Power Transistor, PNP Silicon, 3-Pin TO-39, Bulk Box; Manufacturer: On Semiconductor; PartNumber: JAN2N3636; IC Continuous (A): 1; DatasheetVersion: Rev. 1; PackageVersion: Rev. A, 06/2012; PackageReference: TO-39-3-205AB; PackageDescription: 3-Pin Transistor Outline, Diameter 9.145 mm; Supplier 1: Newark; Supplier Part Number 1: 72W1890; Packing: Bulk Box; Polarity: PNP; RoHS: FALSE; Mounting Technology: Through Hole; ComponentLink1Description: Manufacturer URL; ComponentLink1URL: http://www.onsemi.com/; ComponentLink2Description: Datasheet; ComponentLink2URL: http://www.onsemi.com/pub_link/Collateral/2N3637-D.PDF; ComponentLink3Description: Package Specification; ComponentLink3URL: http://www.onsemi.com/pub_link/Collateral/205AB.PDF
footprint ONSC-TO-39-3-205AB (TO, 3-Leads, Diameter 9.145 mm)
pins: 1 E, 2 B, 3 C

## JAN2N3636L
designator Q?
Low Power Transistor, PNP Silicon, 3-Pin TO-5, Bulk Box; Manufacturer: On Semiconductor; PartNumber: JAN2N3636L; IC Continuous (A): 1; DatasheetVersion: Rev. 1; PackageVersion: Rev. B, 07/2012; PackageReference: TO-5-3-205AA; PackageDescription: 3-Pin Transistor Outline, Diameter 9.145 mm; Supplier 1: Newark; Supplier Part Number 1: 72W1891; Packing: Bulk Box; Polarity: PNP; RoHS: FALSE; Mounting Technology: Through Hole; ComponentLink1Description: Manufacturer URL; ComponentLink1URL: http://www.onsemi.com/; ComponentLink2Description: Datasheet; ComponentLink2URL: http://www.onsemi.com/pub_link/Collateral/2N3637-D.PDF; ComponentLink3Description: Package Specification; ComponentLink3URL: http://www.onsemi.com/pub_link/Collateral/205AA.PDF
footprint ONSC-TO-5-3-205AA (TO, 3-Leads, Diameter 9.145 mm)
pins: 1 E, 2 B, 3 C

## JAN2N3637
designator Q?
Low Power Transistor, PNP Silicon, 3-Pin TO-39, Bulk Box; Manufacturer: On Semiconductor; PartNumber: JAN2N3637; IC Continuous (A): 1; DatasheetVersion: Rev. 1; PackageVersion: Rev. A, 06/2012; PackageReference: TO-39-3-205AB; PackageDescription: 3-Pin Transistor Outline, Diameter 9.145 mm; Supplier 1: Newark; Supplier Part Number 1: 72W1892; Packing: Bulk Box; Polarity: PNP; RoHS: FALSE; Mounting Technology: Through Hole; ComponentLink1Description: Manufacturer URL; ComponentLink1URL: http://www.onsemi.com/; ComponentLink2Description: Datasheet; ComponentLink2URL: http://www.onsemi.com/pub_link/Collateral/2N3637-D.PDF; ComponentLink3Description: Package Specification; ComponentLink3URL: http://www.onsemi.com/pub_link/Collateral/205AB.PDF
footprint ONSC-TO-39-3-205AB (TO, 3-Leads, Diameter 9.145 mm)
pins: 1 E, 2 B, 3 C

## JAN2N3637L
designator Q?
Low Power Transistor, PNP Silicon, 3-Pin TO-5, Bulk Box; Manufacturer: On Semiconductor; PartNumber: JAN2N3637L; IC Continuous (A): 1; DatasheetVersion: Rev. 1; PackageVersion: Rev. B, 07/2012; PackageReference: TO-5-3-205AA; PackageDescription: 3-Pin Transistor Outline, Diameter 9.145 mm; Supplier 1: Newark; Supplier Part Number 1: 72W1893; Packing: Bulk Box; Polarity: PNP; RoHS: FALSE; Mounting Technology: Through Hole; ComponentLink1Description: Manufacturer URL; ComponentLink1URL: http://www.onsemi.com/; ComponentLink2Description: Datasheet; ComponentLink2URL: http://www.onsemi.com/pub_link/Collateral/2N3637-D.PDF; ComponentLink3Description: Package Specification; ComponentLink3URL: http://www.onsemi.com/pub_link/Collateral/205AA.PDF
footprint ONSC-TO-5-3-205AA (TO, 3-Leads, Diameter 9.145 mm)
pins: 1 E, 2 B, 3 C

## JAN2N3700
designator Q?
Low Power Transistor, NPN Silicon, 3-Pin TO-18, Bulk Box; Manufacturer: On Semiconductor; PartNumber: JAN2N3700; IC Continuous (A): 1; DatasheetVersion: Rev. 2; PackageVersion: Rev. A, 08/2012; PackageReference: TO-18-3-206AA; PackageDescription: 3-Pin Transistor Outline, Diameter 5.575 mm; Supplier 1: Newark; Supplier Part Number 1: 76T6070; Supplier 2: Mouser; Supplier Part Number 2: 863-JAN2N3700; Packing: Bulk Box; Polarity: NPN; RoHS: FALSE; Mounting Technology: Through Hole; ComponentLink1Description: Manufacturer URL; ComponentLink1URL: http://www.onsemi.com/; ComponentLink2Description: Datasheet; ComponentLink2URL: http://www.onsemi.com/pub_link/Collateral/2N3019-D.PDF; ComponentLink3Description: Package Specification; ComponentLink3URL: http://www.onsemi.com/pub_link/Collateral/206AA.PDF
footprint ONSC-TO-18-3-206AA (TO, 3-Leads, Diameter 5.575 mm)
pins: 1 E, 2 B, 3 C

## JANHC2N3634
designator Q?
Low Power Transistor, PNP Silicon, 3-Pin TO-39, Bulk Box; Manufacturer: On Semiconductor; PartNumber: JANHC2N3634; Note: 0; IC Continuous (A): 1; DatasheetVersion: Rev. 1; PackageVersion: Rev. A, 06/2012; PackageReference: TO-39-3-205AB; PackageDescription: 3-Pin Transistor Outline, Diameter 9.145 mm; Packing: Bulk Box; Polarity: PNP; RoHS: FALSE; Mounting Technology: Through Hole; ComponentLink1Description: Manufacturer URL; ComponentLink1URL: http://www.onsemi.com/; ComponentLink2Description: Datasheet; ComponentLink2URL: http://www.onsemi.com/pub_link/Collateral/2N3637-D.PDF; ComponentLink3Description: Package Specification; ComponentLink3URL: http://www.onsemi.com/pub_link/Collateral/205AB.PDF
footprint ONSC-TO-39-3-205AB (TO, 3-Leads, Diameter 9.145 mm)
pins: 1 E, 2 B, 3 C

## JANHC2N3634L
designator Q?
Low Power Transistor, PNP Silicon, 3-Pin TO-5, Bulk Box; Manufacturer: On Semiconductor; PartNumber: JANHC2N3634L; Note: 0; IC Continuous (A): 1; DatasheetVersion: Rev. 1; PackageVersion: Rev. B, 07/2012; PackageReference: TO-5-3-205AA; PackageDescription: 3-Pin Transistor Outline, Diameter 9.145 mm; Packing: Bulk Box; Polarity: PNP; RoHS: FALSE; Mounting Technology: Through Hole; ComponentLink1Description: Manufacturer URL; ComponentLink1URL: http://www.onsemi.com/; ComponentLink2Description: Datasheet; ComponentLink2URL: http://www.onsemi.com/pub_link/Collateral/2N3637-D.PDF; ComponentLink3Description: Package Specification; ComponentLink3URL: http://www.onsemi.com/pub_link/Collateral/205AA.PDF
footprint ONSC-TO-5-3-205AA (TO, 3-Leads, Diameter 9.145 mm)
pins: 1 E, 2 B, 3 C

## JANHC2N3635
designator Q?
Low Power Transistor, PNP Silicon, 3-Pin TO-39, Bulk Box; Manufacturer: On Semiconductor; PartNumber: JANHC2N3635; Note: 0; IC Continuous (A): 1; DatasheetVersion: Rev. 1; PackageVersion: Rev. A, 06/2012; PackageReference: TO-39-3-205AB; PackageDescription: 3-Pin Transistor Outline, Diameter 9.145 mm; Packing: Bulk Box; Polarity: PNP; RoHS: FALSE; Mounting Technology: Through Hole; ComponentLink1Description: Manufacturer URL; ComponentLink1URL: http://www.onsemi.com/; ComponentLink2Description: Datasheet; ComponentLink2URL: http://www.onsemi.com/pub_link/Collateral/2N3637-D.PDF; ComponentLink3Description: Package Specification; ComponentLink3URL: http://www.onsemi.com/pub_link/Collateral/205AB.PDF
footprint ONSC-TO-39-3-205AB (TO, 3-Leads, Diameter 9.145 mm)
pins: 1 E, 2 B, 3 C

## JANHC2N3635L
designator Q?
Low Power Transistor, PNP Silicon, 3-Pin TO-5, Bulk Box; Manufacturer: On Semiconductor; PartNumber: JANHC2N3635L; Note: 0; IC Continuous (A): 1; DatasheetVersion: Rev. 1; PackageVersion: Rev. B, 07/2012; PackageReference: TO-5-3-205AA; PackageDescription: 3-Pin Transistor Outline, Diameter 9.145 mm; Packing: Bulk Box; Polarity: PNP; RoHS: FALSE; Mounting Technology: Through Hole; ComponentLink1Description: Manufacturer URL; ComponentLink1URL: http://www.onsemi.com/; ComponentLink2Description: Datasheet; ComponentLink2URL: http://www.onsemi.com/pub_link/Collateral/2N3637-D.PDF; ComponentLink3Description: Package Specification; ComponentLink3URL: http://www.onsemi.com/pub_link/Collateral/205AA.PDF
footprint ONSC-TO-5-3-205AA (TO, 3-Leads, Diameter 9.145 mm)
pins: 1 E, 2 B, 3 C

## JANHC2N3636
designator Q?
Low Power Transistor, PNP Silicon, 3-Pin TO-39, Bulk Box; Manufacturer: On Semiconductor; PartNumber: JANHC2N3636; Note: 0; IC Continuous (A): 1; DatasheetVersion: Rev. 1; PackageVersion: Rev. A, 06/2012; PackageReference: TO-39-3-205AB; PackageDescription: 3-Pin Transistor Outline, Diameter 9.145 mm; Packing: Bulk Box; Polarity: PNP; RoHS: FALSE; Mounting Technology: Through Hole; ComponentLink1Description: Manufacturer URL; ComponentLink1URL: http://www.onsemi.com/; ComponentLink2Description: Datasheet; ComponentLink2URL: http://www.onsemi.com/pub_link/Collateral/2N3637-D.PDF; ComponentLink3Description: Package Specification; ComponentLink3URL: http://www.onsemi.com/pub_link/Collateral/205AB.PDF
footprint ONSC-TO-39-3-205AB (TO, 3-Leads, Diameter 9.145 mm)
pins: 1 E, 2 B, 3 C

## JANHC2N3636L
designator Q?
Low Power Transistor, PNP Silicon, 3-Pin TO-5, Bulk Box; Manufacturer: On Semiconductor; PartNumber: JANHC2N3636L; Note: 0; IC Continuous (A): 1; DatasheetVersion: Rev. 1; PackageVersion: Rev. B, 07/2012; PackageReference: TO-5-3-205AA; PackageDescription: 3-Pin Transistor Outline, Diameter 9.145 mm; Packing: Bulk Box; Polarity: PNP; RoHS: FALSE; Mounting Technology: Through Hole; ComponentLink1Description: Manufacturer URL; ComponentLink1URL: http://www.onsemi.com/; ComponentLink2Description: Datasheet; ComponentLink2URL: http://www.onsemi.com/pub_link/Collateral/2N3637-D.PDF; ComponentLink3Description: Package Specification; ComponentLink3URL: http://www.onsemi.com/pub_link/Collateral/205AA.PDF
footprint ONSC-TO-5-3-205AA (TO, 3-Leads, Diameter 9.145 mm)
pins: 1 E, 2 B, 3 C

## JANHC2N3637
designator Q?
Low Power Transistor, PNP Silicon, 3-Pin TO-39, Bulk Box; Manufacturer: On Semiconductor; PartNumber: JANHC2N3637; Note: 0; IC Continuous (A): 1; DatasheetVersion: Rev. 1; PackageVersion: Rev. A, 06/2012; PackageReference: TO-39-3-205AB; PackageDescription: 3-Pin Transistor Outline, Diameter 9.145 mm; Packing: Bulk Box; Polarity: PNP; RoHS: FALSE; Mounting Technology: Through Hole; ComponentLink1Description: Manufacturer URL; ComponentLink1URL: http://www.onsemi.com/; ComponentLink2Description: Datasheet; ComponentLink2URL: http://www.onsemi.com/pub_link/Collateral/2N3637-D.PDF; ComponentLink3Description: Package Specification; ComponentLink3URL: http://www.onsemi.com/pub_link/Collateral/205AB.PDF
footprint ONSC-TO-39-3-205AB (TO, 3-Leads, Diameter 9.145 mm)
pins: 1 E, 2 B, 3 C

## JANHC2N3637L
designator Q?
Low Power Transistor, PNP Silicon, 3-Pin TO-5, Bulk Box; Manufacturer: On Semiconductor; PartNumber: JANHC2N3637L; Note: 0; IC Continuous (A): 1; DatasheetVersion: Rev. 1; PackageVersion: Rev. B, 07/2012; PackageReference: TO-5-3-205AA; PackageDescription: 3-Pin Transistor Outline, Diameter 9.145 mm; Packing: Bulk Box; Polarity: PNP; RoHS: FALSE; Mounting Technology: Through Hole; ComponentLink1Description: Manufacturer URL; ComponentLink1URL: http://www.onsemi.com/; ComponentLink2Description: Datasheet; ComponentLink2URL: http://www.onsemi.com/pub_link/Collateral/2N3637-D.PDF; ComponentLink3Description: Package Specification; ComponentLink3URL: http://www.onsemi.com/pub_link/Collateral/205AA.PDF
footprint ONSC-TO-5-3-205AA (TO, 3-Leads, Diameter 9.145 mm)
pins: 1 E, 2 B, 3 C

## JANTX2N2219
designator Q?
Small Signal Switching Transistor, NPN Silicon, 3-Pin TO-39, Bulk Box; Manufacturer: On Semiconductor; PartNumber: JANTX2N2219; IC Continuous (A): 0.8; DatasheetVersion: Rev. 1; PackageVersion: Rev. A, 06/2012; PackageReference: TO-39-3-205AB; PackageDescription: 3-Pin Transistor Outline, Diameter 9.145 mm; Supplier 1: Newark; Supplier Part Number 1: 45W8313; Supplier 2: Mouser; Supplier Part Number 2: 863-JANTX2N2219; Packing: Bulk Box; Polarity: NPN; RoHS: FALSE; Mounting Technology: Through Hole; ComponentLink1Description: Manufacturer URL; ComponentLink1URL: http://www.onsemi.com/; ComponentLink2Description: Datasheet; ComponentLink2URL: http://www.onsemi.com/pub_link/Collateral/2N2219-D.PDF; ComponentLink3Description: Package Specification; ComponentLink3URL: http://www.onsemi.com/pub_link/Collateral/205AB.PDF
footprint ONSC-TO-39-3-205AB (TO, 3-Leads, Diameter 9.145 mm)
pins: 1 E, 2 B, 3 C

## JANTX2N2219A
designator Q?
Small Signal Switching Transistor, NPN Silicon, 3-Pin TO-39, Bulk Box; Manufacturer: On Semiconductor; PartNumber: JANTX2N2219A; IC Continuous (A): 0.8; DatasheetVersion: Rev. 1; PackageVersion: Rev. A, 06/2012; PackageReference: TO-39-3-205AB; PackageDescription: 3-Pin Transistor Outline, Diameter 9.145 mm; Supplier 1: Newark; Supplier Part Number 1: 45W8314; Supplier 2: Mouser; Supplier Part Number 2: 863-JANTX2N2219A; Packing: Bulk Box; Polarity: NPN; RoHS: FALSE; Mounting Technology: Through Hole; ComponentLink1Description: Manufacturer URL; ComponentLink1URL: http://www.onsemi.com/; ComponentLink2Description: Datasheet; ComponentLink2URL: http://www.onsemi.com/pub_link/Collateral/2N2219-D.PDF; ComponentLink3Description: Package Specification; ComponentLink3URL: http://www.onsemi.com/pub_link/Collateral/205AB.PDF
footprint ONSC-TO-39-3-205AB (TO, 3-Leads, Diameter 9.145 mm)
pins: 1 E, 2 B, 3 C

## JANTX2N2219AL
designator Q?
Small Signal Switching Transistor, NPN Silicon, 3-Pin TO-5, Bulk Box; Manufacturer: On Semiconductor; PartNumber: JANTX2N2219AL; IC Continuous (A): 0.8; DatasheetVersion: Rev. 1; PackageVersion: Rev. B, 07/2012; PackageReference: TO-5-3-205AA; PackageDescription: 3-Pin Transistor Outline, Diameter 9.145 mm; Supplier 1: Mouser; Supplier Part Number 1: 863-JANTX2N2219AL; Packing: Bulk Box; Polarity: NPN; RoHS: FALSE; Mounting Technology: Through Hole; ComponentLink1Description: Manufacturer URL; ComponentLink1URL: http://www.onsemi.com/; ComponentLink2Description: Datasheet; ComponentLink2URL: http://www.onsemi.com/pub_link/Collateral/2N2219-D.PDF; ComponentLink3Description: Package Specification; ComponentLink3URL: http://www.onsemi.com/pub_link/Collateral/205AA.PDF
footprint ONSC-TO-5-3-205AA (TO, 3-Leads, Diameter 9.145 mm)
pins: 1 E, 2 B, 3 C

## JANTX2N2222A
designator Q?
Small Signal Switching Transistor, NPN Silicon, 3-Pin TO-18, Bulk Box; Manufacturer: On Semiconductor; PartNumber: JANTX2N2222A; IC Continuous (A): 0.8; DatasheetVersion: Rev. 2; PackageVersion: Rev. A, 08/2012; PackageReference: TO-18-3-206AA; PackageDescription: 3-Pin Transistor Outline, Diameter 5.575 mm; Supplier 1: Farnell; Supplier Part Number 1: 2366960; Supplier 2: Newark; Supplier Part Number 2: 56W5231; Supplier 3: Mouser; Supplier Part Number 3: 863-JANTX2N2222A; Packing: Bulk Box; Polarity: NPN; RoHS: FALSE; Mounting Technology: Through Hole; ComponentLink1Description: Manufacturer URL; ComponentLink1URL: http://www.onsemi.com/; ComponentLink2Description: Datasheet; ComponentLink2URL: http://www.onsemi.com/pub_link/Collateral/2N2222A-D.PDF; ComponentLink3Description: Package Specification; ComponentLink3URL: http://www.onsemi.com/pub_link/Collateral/206AA.PDF
footprint ONSC-TO-18-3-206AA (TO, 3-Leads, Diameter 5.575 mm)
pins: 1 E, 2 B, 3 C

## JANTX2N2905A
designator Q?
Small Signal Switching Transistor, PNP Silicon, 3-Pin TO-39, Bulk Box; Manufacturer: On Semiconductor; PartNumber: JANTX2N2905A; IC Continuous (A): -0.6; DatasheetVersion: Rev. 2; PackageVersion: Rev. A, 06/2012; PackageReference: TO-39-3-205AB; PackageDescription: 3-Pin Transistor Outline, Diameter 9.145 mm; Supplier 1: Newark; Supplier Part Number 1: 76T6061; Supplier 2: Mouser; Supplier Part Number 2: 863-JANTX2N2905A; Packing: Bulk Box; Polarity: PNP; RoHS: FALSE; Mounting Technology: Through Hole; ComponentLink1Description: Manufacturer URL; ComponentLink1URL: http://www.onsemi.com/; ComponentLink2Description: Datasheet; ComponentLink2URL: http://www.onsemi.com/pub_link/Collateral/2N2905A-D.PDF; ComponentLink3Description: Package Specification; ComponentLink3URL: http://www.onsemi.com/pub_link/Collateral/205AB.PDF
footprint ONSC-TO-39-3-205AB (TO, 3-Leads, Diameter 9.145 mm)
pins: 1 E, 2 B, 3 C